# Altium schematic symbol library VCNL4035X01_Gesture_Board.SchLib: 1 symbol
Pins are listed as number, name and electrical type; pins without a type are passive.

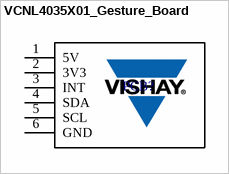
[diagram p0: symbol VCNL4035X01_Gesture_Board]

## VCNL4035X01_Gesture_Board
designator PCB?
Vishay VCNL4035X01 Gesture Board REV5.0
footprint VCNL4035X01_Gesture_Board
pins: 1 5V, 2 3V3, 3 INT, 4 SDA, 5 SCL, 6 GND